# Altium schematic symbol library MCP73831_2.Schlib: 1 symbol
Pins are listed as number, name and electrical type; pins without a type are passive.

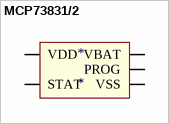
[diagram p0: symbol MCP73831/2]

## MCP73831/2
designator *
IC LIPO CHARGE MANAGEMENT
pins: 1 STAT, 2 VSS, 3 VBAT, 4 VDD, 5 PROG